# EAGLE library part 750313527 (library Midcom Inc - EAGLE Lib V2-0)
Package Style: EFD15 Mounting: SMD Pins: 12 pins Bobbin: 070-4265 Best pinouts for production vary per application. Please contact Wurth Electronics Midcom, Inc. for assistance with your custom design. Website: Wurth Electronics Midcom <http://www.we-online.com/midcom> Contact us Wurth Electronics Midcom, Inc. 121 Airport Dr. Watertown, SD 57201 Phone: (605) 886-4385 Fax: (605) 886-4486 E-Mail: midcom@we-online.com
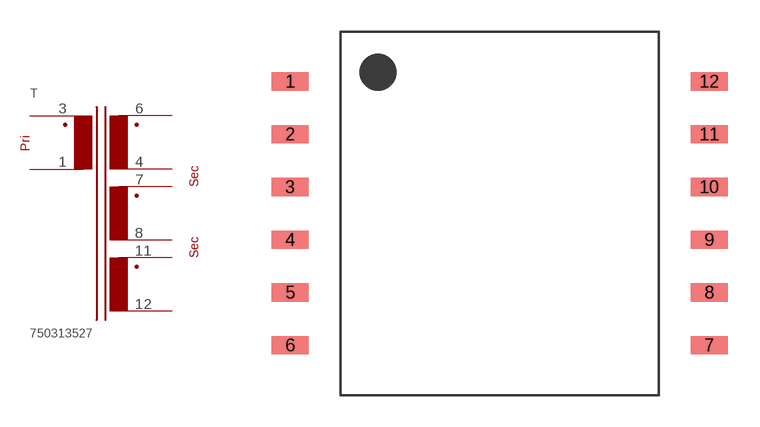
[diagram p26: symbol with the pads of EFD15_SMD_H_12PIN_(4265); footprint EFD15_SMD_H_12PIN_(4265)]

Designator prefix T

## 750313527  [EFD15_SMD_H_12PIN_(4265)]
1  1  pas
3  3  pas
4  4  pas
6  6  pas
7  7  pas
8  8  pas
11  11  pas
12  12  pas

## Footprint EFD15_SMD_H_12PIN_(4265) (pad centres in mm)
Package Style: EFD15 Mounting: SMD Pins: 12 Bobbin: 070-4265
smd 1.753 x 0.864: 1 -9.893,6.223; 2 -9.893,3.734; 3 -9.893,1.245; 4 -9.893,-1.245; 5 -9.893,-3.734; 6 -9.893,-6.223; 7 9.893,-6.223; 8 9.893,-3.734; 9 9.893,-1.245; 10 9.893,1.245; 11 9.893,3.734; 12 9.893,6.223